# EAGLE library part RJ45-8 (library Connector-etc)
RJ45 Jack Simple RJ45, 8-pin connection - connector for common Cat5, Cat5e, and Cat6 Ethernet cables. Footprint not yet proven in production. Connector sku is PRT-00643; Breakout PCB sku is BOB-00716.
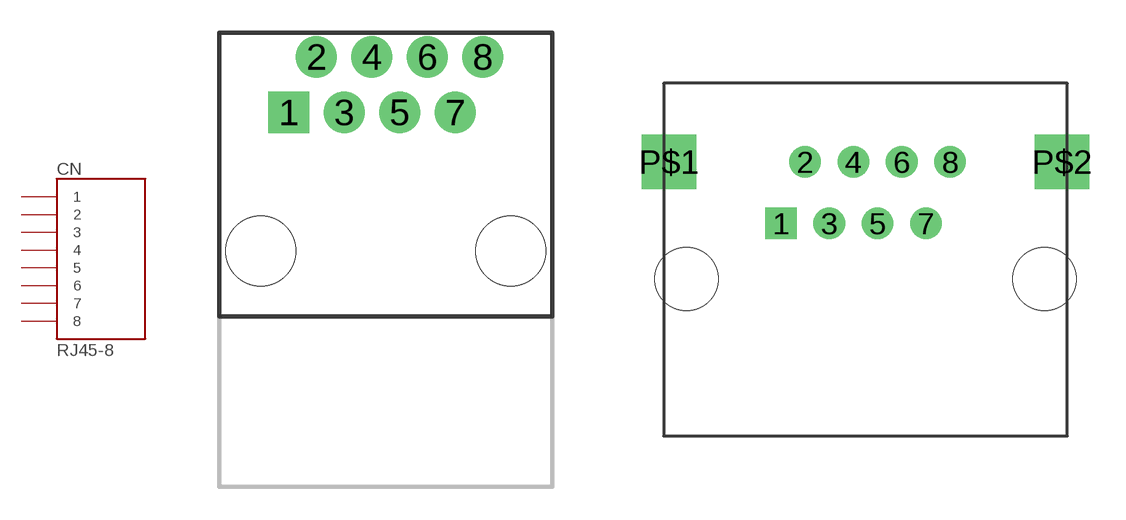
[diagram p1: symbol with the pads of RJ45-8; footprints RJ45-8, RJ-45_7810-8P8C]

Designator prefix CN

## RJ45-8PTH  [RJ45-8]
1  1
2  2
3  3
4  4
5  5
6  6
7  7
8  8

## RJ45-8-7810  [RJ-45_7810-8P8C]
Pads as for RJ45-8

## RJ45-8DIP  [AE-RJ-45-LAN-DIP-A]
Pads as for RJ45-8

## Footprint RJ45-8 (pad centres in mm)
drill 1 pad 1.88 square: 1 -4.445,6.35
drill 1 pad 1.88: 2 -3.175,8.89; 3 -1.905,6.35; 4 -0.635,8.89; 5 0.635,6.35; 6 1.905,8.89; 7 3.175,6.35; 8 4.445,8.89
hole 3.2 at -5.715,0
hole 3.2 at 5.715,0

## Footprint RJ-45_7810-8P8C (pad centres in mm)
CNCでパッド間に1ぽん通すために、少し小さめの穴を設定している。
drill 0.8 square: 1 -3.5,2.3
drill 0.8: 2 -2.5,4.84; 3 -1.5,2.3; 4 -0.5,4.84; 5 0.5,2.3; 6 1.5,4.84; 7 2.5,2.3; 8 3.5,4.84
drill 1.5 square: P$1 -8.125,4.84; P$2 8.125,4.84
hole 2.6 at -7.4,0
hole 2.6 at 7.4,0

## Footprint AE-RJ-45-LAN-DIP-A (pad centres in mm)
RJ-45変換基板 Link: http://akizukidenshi.com/catalog/g/gP-05409/ -- Akitsuki --
drill 1 square: 1 -8.89,8.89
drill 1: 2 -6.35,8.89; 3 -3.81,8.89; 4 -1.27,8.89; 5 1.27,8.89; 6 3.81,8.89; 7 6.35,8.89; 8 8.89,8.89
drill 0.8: P$11 -11.43,-3.81; P$12 11.43,-3.81